# Altium footprint library XTAL_L700_W500_H170.PcbLib: 1 footprints
Each footprint in its own frame and in the unit in brackets; x right, y up, seen from the top. Pads: shape width x height; smd on the part's side, far side on the other; paste and mask are expansions set on the pad; w line width, h text height; cw(c..) or ccw(c..) is an arc to the next point about the centre after c.
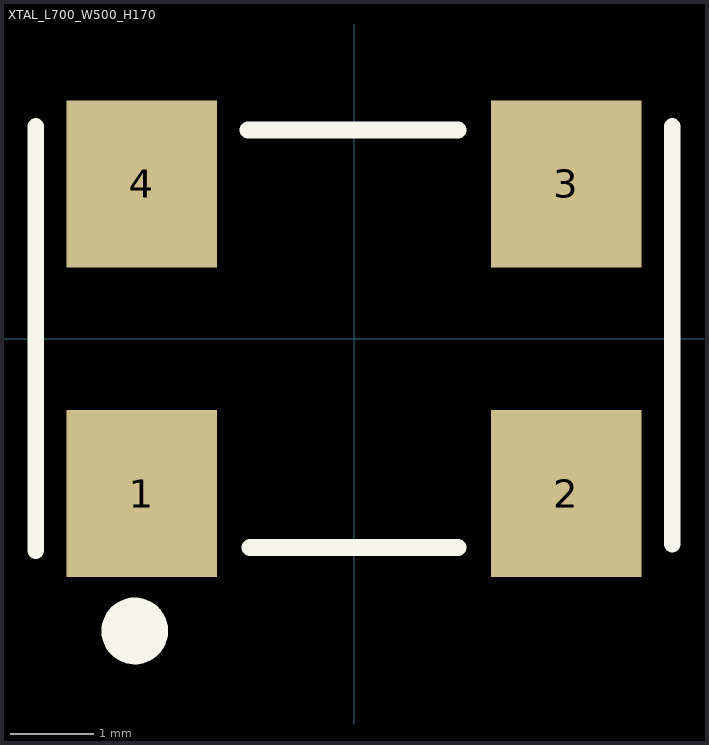
[diagram p0: the footprint, top view; thin cyan lines are the x and y axes]

## XTAL_L700_W500_H170 [mm] "Crystal, SM; Body 7.0 x 5.0 (inc. leads) mm (LxW)"
height 1.7
pads (4):
  rect 1.8x2 smd: 1(-2.54,-1.854) 2(2.54,-1.854) 3(2.54,1.854) 4(-2.54,1.854)
Top Overlay:
  circle w0.4: c-2.625,-3.5 r0.2
  lines w0.2: -3.81,-2.54 -3.81,2.54 ; -1.27,2.5 1.25,2.5 ; -1.25,-2.5 1.25,-2.5 ; 3.81,-2.46 3.81,2.54